# Altium footprint library mjindal2_pcblib.PcbLib: 2 footprints
Each footprint in its own frame and in the unit in brackets; x right, y up, seen from the top. Pads: shape width x height; smd on the part's side, far side on the other; paste and mask are expansions set on the pad; w line width, h text height; cw(c..) or ccw(c..) is an arc to the next point about the centre after c.
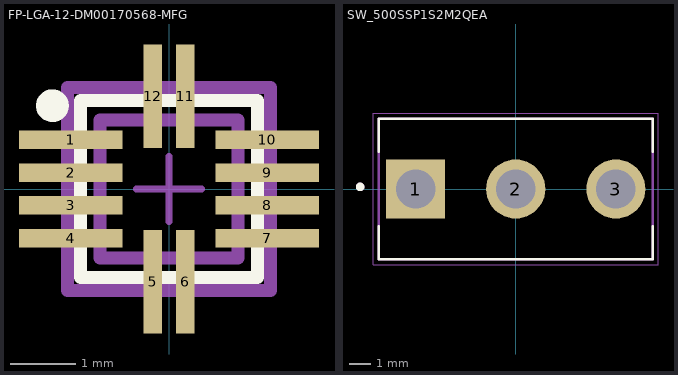
[diagram p0: the footprints below, top view; thin cyan lines are the x and y axes]

## FP-LGA-12-DM00170568-MFG [mm]
pads (12):
  rect 1.575x0.28 smd paste-1000 mask+0: 1(-1.5,0.75) 2(-1.5,0.25) 3(-1.5,-0.25) 4(-1.5,-0.75) 7(1.5,-0.75) 8(1.5,-0.25) 9(1.5,0.25) 10(1.5,0.75)
  rect 0.28x1.575 smd paste-1000 mask+0: 5(-0.25,-1.413) 6(0.25,-1.413) 11(0.25,1.413) 12(-0.25,1.413)
Top Overlay:
  circle w0.25: c-1.778,1.271 r0.125
  lines w0.2: -1.35,-1.35 -1.35,1.35 1.35,1.35 1.35,-1.35 -1.35,-1.35
Top Paste:
  rectangle: -2.286,0.093 -0.595,0.407
  rectangle: 0.595,0.093 2.286,0.407
  rectangle: -2.286,0.593 -0.595,0.907
  rectangle: 0.093,0.595 0.407,2.159
  rectangle: -0.407,0.595 -0.093,2.159
  rectangle: -2.286,-0.907 -0.595,-0.593
  rectangle: -2.286,-0.407 -0.595,-0.093
  rectangle: 0.595,-0.407 2.286,-0.093
  rectangle: 0.595,-0.907 2.286,-0.593
  rectangle: 0.093,-2.159 0.407,-0.595
  rectangle: -0.407,-2.159 -0.093,-0.595
  rectangle: 0.595,0.593 2.286,0.907
Top 3D Body:
  lines w0.2: -1.05,-1.05 -1.05,1.05 1.05,1.05 1.05,-1.05 -1.05,-1.05
Top Courtyard:
  lines w0.2: -1.55,-1.55 -1.55,1.55 1.55,1.55 1.55,-1.55 -1.55,-1.55
Top Assembly:
  lines w0.2: -1.55,-1.55 -1.55,1.55 1.55,1.55 1.55,-1.55 -1.55,-1.55
Top Component Center:
  lines w0.1: -0.5,0 0.5,0 ; 0,-0.5 0,0.5
3D body "IC_STMicroelectronics_IIS2MDCTR_eec.STEP": height 0.25, standoff 0, extent -1.55,-1.55 1.55,1.55

## SW_500SSP1S2M2QEA [mm]
pads (3):
  rect 2.775x2.775 hole 1.85: 1(-4.7,0)
  round 2.775 hole 1.85: 2(0,0) 3(4.7,0)
Top Overlay:
  circle w0.2: c-7.3,0.1 r0.1
  lines w0.127: -6.425,-1.75 -6.425,-3.3 6.425,-3.3 6.425,-1.75 ; -6.425,1.75 -6.425,3.3 6.425,3.3 6.425,1.75
Mechanical 13:
  circle w0.2: c-7.3,0.1 r0.1
  lines w0.127: -6.425,-3.3 -6.425,3.3 6.425,3.3 6.425,-3.3 -6.425,-3.3
Mechanical 15:
  lines w0.05: -6.675,-3.55 -6.675,3.55 6.675,3.55 6.675,-3.55 -6.675,-3.55